# Altium footprint library 主板.PcbLib: 22 footprints (part 2 of 2)
Each footprint in its own frame and in the unit in brackets; x right, y up, seen from the top. Pads: shape width x height; smd on the part's side, far side on the other; paste and mask are expansions set on the pad; w line width, h text height; cw(c..) or ccw(c..) is an arc to the next point about the centre after c.
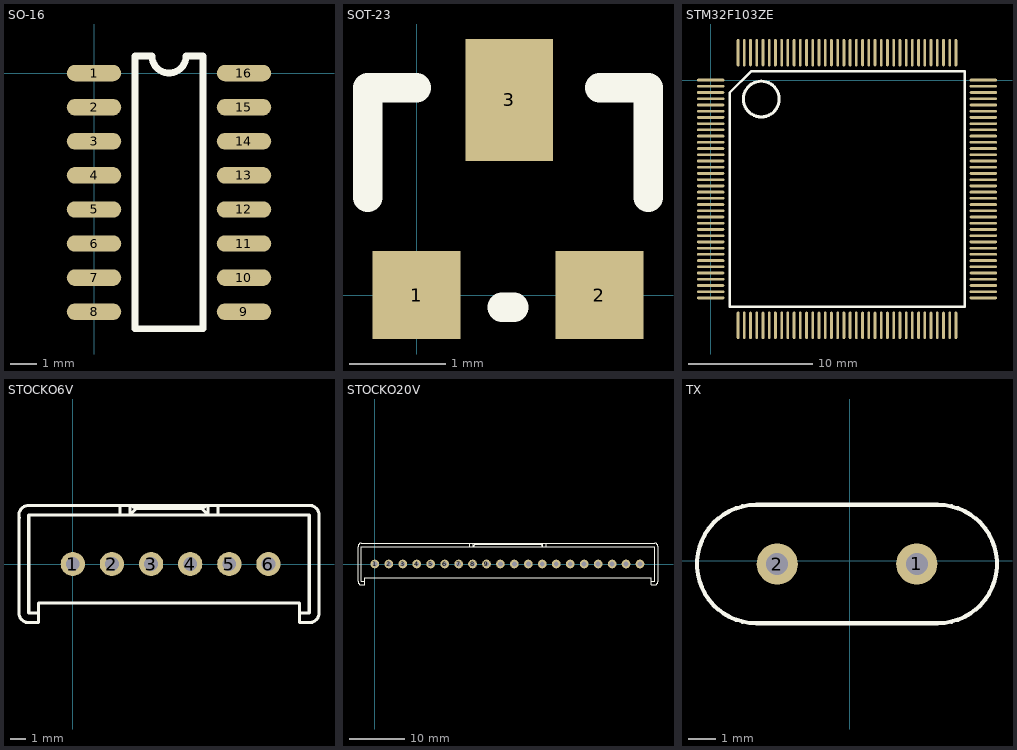
[diagram p1: the footprints below, top view; thin cyan lines are the x and y axes]

## SO-16 [mil]
pads (16):
  oval 80x24 smd: 1(0,0) 2(0,-50) 3(0,-100) 4(0,-150) 5(0,-200) 6(0,-250) 7(0,-300) 8(0,-350) 9(220,-350) 10(220,-300) 11(220,-250) 12(220,-200) 13(220,-150) 14(220,-100) 15(220,-50) 16(220,0)
Top Overlay:
  lines w10: 60,-375 60,25 85,25 ccw(c110,25) 135,25 160,25 160,-375 60,-375

## SOT-23 [mil]
pads (3):
  rect 36x36 smd: 1(0,0) 2(75,0)
  rect 36x50 smd: 3(38,80)
Top Overlay:
  lines w12: -20,40 -20,85 0,85 ; 35,-5 40,-5 ; 75,85 95,85 95,40

## STM32F103ZE [mm]
pads (144):
  oval 2.2x0.22 smd: 1(0,0) 2(0,-0.5) 3(0,-1) 4(0,-1.5) 5(0,-2) 6(0,-2.5) 7(0,-3) 8(0,-3.5) 9(0,-4) 10(0,-4.5) 11(0,-5) 12(0,-5.5) 13(0,-6) 14(0,-6.5) 15(0,-7) 16(0,-7.5) 17(0,-8) 18(0,-8.5) 19(0,-9) 20(0,-9.5) 21(0,-10) 22(0,-10.5) 23(0,-11) 24(0,-11.5) 25(0,-12) 26(0,-12.5) 27(0,-13) 28(0,-13.5) 29(0,-14) 30(0,-14.5) 31(0,-15) 32(0,-15.5) 33(0,-16) 34(0,-16.5) 35(0,-17) 36(0,-17.5) 73(21.9,-17.5) 74(21.9,-17) 75(21.9,-16.5) 76(21.9,-16) 77(21.9,-15.5) 78(21.9,-15) 79(21.9,-14.5) 80(21.9,-14) 81(21.9,-13.5) 82(21.9,-13) 83(21.9,-12.5) 84(21.9,-12) 85(21.9,-11.5) 86(21.9,-11) 87(21.9,-10.5) 88(21.9,-10) 89(21.9,-9.5) 90(21.9,-9) 91(21.9,-8.5) 92(21.9,-8) 93(21.9,-7.5) 94(21.9,-7) 95(21.9,-6.5) 96(21.9,-6) 97(21.9,-5.5) 98(21.9,-5) 99(21.9,-4.5) 100(21.9,-4) 101(21.9,-3.5) 102(21.9,-3) 103(21.9,-2.5) 104(21.9,-2) 105(21.9,-1.5) 106(21.9,-1) 107(21.9,-0.5) 108(21.9,0)
  oval 0.22x2.2 smd: 37(2.2,-19.7) 38(2.7,-19.7) 39(3.2,-19.7) 40(3.7,-19.7) 41(4.2,-19.7) 42(4.7,-19.7) 43(5.2,-19.7) 44(5.7,-19.7) 45(6.2,-19.7) 46(6.7,-19.7) 47(7.2,-19.7) 48(7.7,-19.7) 49(8.2,-19.7) 50(8.7,-19.7) 51(9.2,-19.7) 52(9.7,-19.7) 53(10.2,-19.7) 54(10.7,-19.7) 55(11.2,-19.7) 56(11.7,-19.7) 57(12.2,-19.7) 58(12.7,-19.7) 59(13.2,-19.7) 60(13.7,-19.7) 61(14.2,-19.7) 62(14.7,-19.7) 63(15.2,-19.7) 64(15.7,-19.7) 65(16.2,-19.7) 66(16.7,-19.7) 67(17.2,-19.7) 68(17.7,-19.7) 69(18.2,-19.7) 70(18.7,-19.7) 71(19.2,-19.7) 72(19.7,-19.7) 109(19.7,2.2) 110(19.2,2.2) 111(18.7,2.2) 112(18.2,2.2) 113(17.7,2.2) 114(17.2,2.2) 115(16.7,2.2) 116(16.2,2.2) 117(15.7,2.2) 118(15.2,2.2) 119(14.7,2.2) 120(14.2,2.2) 121(13.7,2.2) 122(13.2,2.2) 123(12.7,2.2) 124(12.2,2.2) 125(11.7,2.2) 126(11.2,2.2) 127(10.7,2.2) 128(10.2,2.2) 129(9.7,2.2) 130(9.2,2.2) 131(8.7,2.2) 132(8.2,2.2) 133(7.7,2.2) 134(7.2,2.2) 135(6.7,2.2) 136(6.2,2.2) 137(5.7,2.2) 138(5.2,2.2) 139(4.7,2.2) 140(4.2,2.2) 141(3.7,2.2) 142(3.2,2.2) 143(2.7,2.2) 144(2.2,2.2)
Top Overlay:
  circle w0.254: c4.064,-1.524 r1.437
  lines w0.2: 1.524,-18.2 20.4,-18.2 20.4,0.7 3.24,0.7 1.524,-1.016 1.524,-1.524 1.524,-18.2

## STOCKO6V [mil]
pads (6):
  round 62 hole 35: 1(0,0) 2(100,0) 3(200,0) 4(300,0) 5(400,0) 6(500,0)
Top Overlay:
  lines w7.87: -137.5,125 -137.5,-125 ccw(c-112.5,-125) -112.5,-150 -87.5,-150 -87.5,-100 579.17,-100 579.17,-150 604.17,-150 ccw(c604.17,-125) 629.17,-125 629.17,125 ccw(c604.17,125) 604.17,150 -112.5,150 ccw(c-112.5,125) -136.28,117.27 ; -87.5,-125 -112.5,-125 -112.5,125 604.17,125 604.17,-125 579.17,-125 ; 120.83,125 120.83,150 ; 370.83,125 370.83,150 ; 162.5,141.67 145.83,150 145.83,125 162.5,141.67 ; 162.5,141.67 329.17,141.67 ; 329.17,141.67 345.83,150 345.83,125 329.17,141.67

## STOCKO20V [mil]
pads (20):
  round 62 hole 35: 1(0,0) 2(100,0) 3(200,0) 4(300,0) 5(400,0) 6(500,0) 7(600,0) 8(700,0) 9(800,0) 10(900,0) 11(1000,0) 12(1100,0) 13(1200,0) 14(1300,0) 15(1400,0) 16(1500,0) 17(1600,0) 18(1700,0) 19(1800,0) 20(1900,0)
Top Overlay:
  lines w7.87: -70.83,-125 -95.83,-125 -95.83,125 -87.5,125 2004.17,125 2004.17,-125 1979.17,-125 ; 679.17,125 679.17,150 ; 1229.17,125 1229.17,150 ; 720.83,141.67 1187.5,141.67 ; 720.83,141.67 704.17,150 704.17,125 720.83,141.67 ; 1187.5,141.67 1204.17,150 1204.17,125 1187.5,141.67 ; -120.83,-125 ccw(c-95.83,-125) -95.83,-150 -70.83,-150 -70.83,-100 1979.17,-100 1979.17,-150 2004.17,-150 ccw(c2004.17,-125) 2029.17,-125 2029.17,125 ccw(c2004.17,125) 2004.17,150 -95.83,150 ccw(c-95.83,125) -120.83,125 -120.83,-125

## TX [mm]
pads (2):
  round 1.5 hole 0.8: 1(2.448,-0.117) 2(-2.632,-0.117)
Top Overlay:
  lines w0.15: -3.394,-2.276 cw(c-3.394,-0.117) -3.394,2.042 3.21,2.042 cw(c3.21,-0.117) 3.21,-2.276 -3.394,-2.276